# Altium schematic symbol library ResVar.SchLib: 1 symbol
Pins are listed as number, name and electrical type; pins without a type are passive.

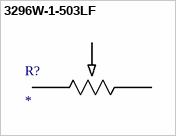
[diagram p0: symbol 3296W-1-503LF]

## 3296W-1-503LF
designator R?
Imported; Manufacturer_Part_Number: 3296W-1-503LF; Vendor: Bourns Electronics; HEADER_SECTION: Passives; HEADER_GROUP: Resistors; R-S_Number: 5219805; Tolerance: 10%; Voltage: Unknown; C: Copyright (C) 2015 Accelerated Designs. All rights reserved; Manufacturer_Name: Bourns Electronics; Mounting: Through Hole; Value: Value; Package/Case: Unknown; Current Rating: Unknown; Copyright: Copyright (C) 2015 Accelerated Designs. All rights reserved; RefDes: RefDes; Type: DEV
footprint POT_3296W
pins: 1, 2, 3